# Altium footprint library TPS7A8401A.PcbLib: 2 footprints
Each footprint in its own frame and in the unit in brackets; x right, y up, seen from the top. Pads: shape width x height; smd on the part's side, far side on the other; paste and mask are expansions set on the pad; w line width, h text height; cw(c..) or ccw(c..) is an arc to the next point about the centre after c.
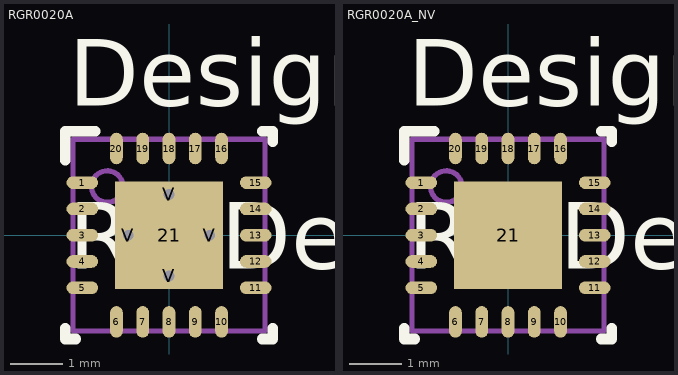
[diagram p0: the footprints below, top view; thin cyan lines are the x and y axes]

## RGR0020A [mm]
pads (25):
  oval 0.6x0.24 smd paste+0 mask+0.051: 1(-1.65,1) 2(-1.65,0.5) 3(-1.65,0) 4(-1.65,-0.5) 5(-1.65,-1) 11(1.65,-1) 12(1.65,-0.5) 13(1.65,0) 14(1.65,0.5) 15(1.65,1)
  oval 0.24x0.6 smd paste+0 mask+0.051: 6(-1,-1.65) 7(-0.5,-1.65) 8(0,-1.65) 9(0.5,-1.65) 10(1,-1.65) 16(1,1.65) 17(0.5,1.65) 18(0,1.65) 19(-0.5,1.65) 20(-1,1.65)
  rect 2.05x2.05 smd paste-1.025 mask+0.051: 21(0,0)
  round 0.5 / inner round 1.524 / far side round 0.5 hole 0.203 paste-0.25 mask+0.051: V(-0.775,0) V(0,-0.775) V(0,0.775) V(0.775,0)
Top Overlay:
  lines w0.2: -1.975,-1.775 -1.975,-1.975 -1.775,-1.975 ; -1.975,1.425 -1.975,1.975 -1.4,1.975 ; 1.775,-1.975 1.975,-1.975 1.975,-1.775 ; 1.775,1.975 1.975,1.975 1.975,1.775
  text "Designator9" at -1.905,2.464 h1.27
  text "RefDes" at -1.905,-0.635 h1.27
Top Paste:
  region: 0.1,1.017 0.1,0.1 1.017,0.1 1.017,1.017
  region: -0.1,0.1 -0.1,1.017 -1.017,1.017 -1.017,0.1
  region: -0.1,-1.017 -0.1,-0.1 -1.017,-0.1 -1.017,-1.017
  region: 0.1,-0.1 0.1,-1.017 1.017,-1.017 1.017,-0.1
Mechanical 13:
  circle w0.1: c-1.175,0.925 r0.3
  lines w0.1: -1.825,-1.825 -1.825,1.825 1.825,1.825 1.825,-1.825 -1.825,-1.825

## RGR0020A_NV [mm]
pads (21):
  oval 0.6x0.24 smd paste+0 mask+0.051: 1(-1.65,1) 2(-1.65,0.5) 3(-1.65,0) 4(-1.65,-0.5) 5(-1.65,-1) 11(1.65,-1) 12(1.65,-0.5) 13(1.65,0) 14(1.65,0.5) 15(1.65,1)
  oval 0.24x0.6 smd paste+0 mask+0.051: 6(-1,-1.65) 7(-0.5,-1.65) 8(0,-1.65) 9(0.5,-1.65) 10(1,-1.65) 16(1,1.65) 17(0.5,1.65) 18(0,1.65) 19(-0.5,1.65) 20(-1,1.65)
  rect 2.05x2.05 smd paste-1.025 mask+0.051: 21(0,0)
Top Overlay:
  lines w0.2: -1.975,-1.775 -1.975,-1.975 -1.775,-1.975 ; -1.975,1.425 -1.975,1.975 -1.4,1.975 ; 1.775,-1.975 1.975,-1.975 1.975,-1.775 ; 1.775,1.975 1.975,1.975 1.975,1.775
  text "Designator9" at -1.905,2.464 h1.27
  text "RefDes" at -1.905,-0.635 h1.27
Top Paste:
  region: 0.1,1.017 0.1,0.1 1.017,0.1 1.017,1.017
  region: -0.1,0.1 -0.1,1.017 -1.017,1.017 -1.017,0.1
  region: -0.1,-1.017 -0.1,-0.1 -1.017,-0.1 -1.017,-1.017
  region: 0.1,-0.1 0.1,-1.017 1.017,-1.017 1.017,-0.1
Mechanical 13:
  circle w0.1: c-1.175,0.925 r0.3
  lines w0.1: -1.825,-1.825 -1.825,1.825 1.825,1.825 1.825,-1.825 -1.825,-1.825